# EAGLE library part CONN_MICROSD (library DSPR)
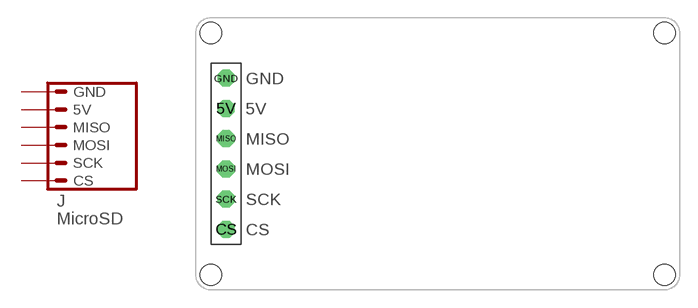
[diagram p5: symbol with the pads of CONN_MICROSD_MODULE; footprint CONN_MICROSD_MODULE]

Designator prefix J

## CONN_MICROSD_BOARD  [CONN_MICROSD_MODULE]
5V  5V  pas
CS  CS  pas
GND  GND  pas
MISO  MISO  pas
MOSI  MOSI  pas
SCK  SCK  pas

## Footprint CONN_MICROSD_MODULE (pad centres in mm)
drill 0.813 pad 1.422 octagon: 5V 0,3.81; CS 0,-6.35; GND 0,6.35; MISO 0,1.27; MOSI 0,-1.27; SCK 0,-3.81
hole 1.778 at -1.27,10.16
hole 1.778 at -1.27,-10.16
hole 1.778 at 36.83,-10.16
hole 1.778 at 36.83,10.16